# EAGLE library part MAX6969 (library max6969)
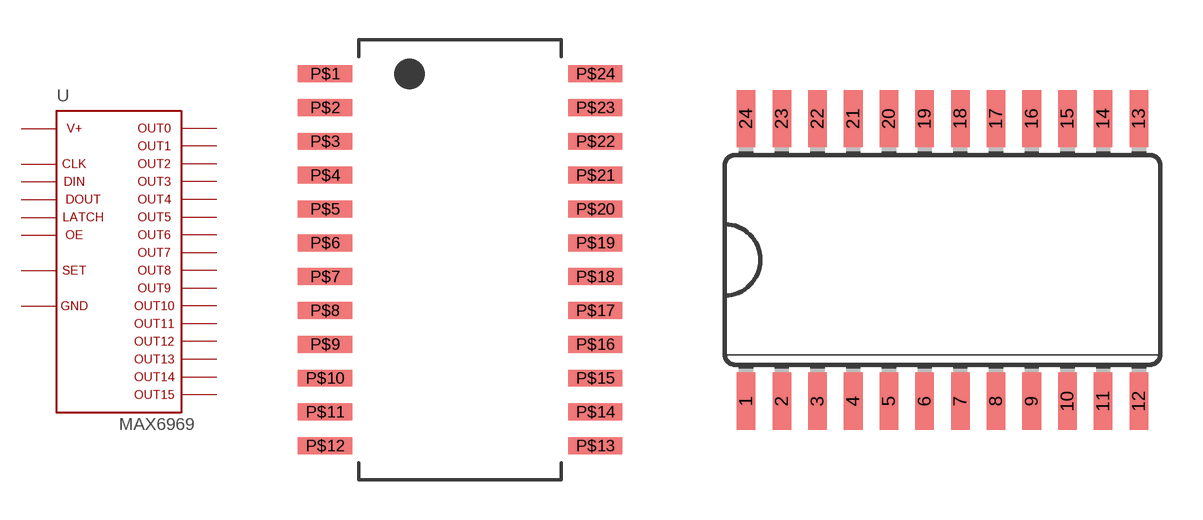
[diagram p0: symbol with the pads of TSSOP24; footprints TSSOP24, SO24W]

Designator prefix -

## MAX6969  [TSSOP24]
P$1  P$1  pwr
P$2  P$2  in
P$3  P$3  in
P$4  P$4  in
P$5  P$5  out
P$6  P$6  out
P$7  P$7  out
P$8  P$8  out
P$9  P$9  out
P$10  P$10  out
P$11  P$11  out
P$12  P$12  out
P$13  P$13  out
P$14  P$14  out
P$15  P$15  out
P$16  P$16  out
P$17  P$17  out
P$18  P$18  out
P$19  P$19  out
P$20  P$20  out
P$21  P$21  in
P$22  P$22  out
P$23  P$23
P$24  P$24  pwr

## MAX6969M  [SO24W]
1  P$1  pwr
2  P$2  in
3  P$3  in
4  P$4  in
5  P$5  out
6  P$6  out
7  P$7  out
8  P$8  out
9  P$9  out
10  P$10  out
11  P$11  out
12  P$12  out
13  P$13  out
14  P$14  out
15  P$15  out
16  P$16  out
17  P$17  out
18  P$18  out
19  P$19  out
20  P$20  out
21  P$21  in
22  P$22  out
23  P$23
24  P$24  pwr

## Footprint TSSOP24 (pad centres in mm)
smd 2.032 x 0.635: P$1 -5.07,6.35; P$2 -5.07,5.08; P$3 -5.07,3.81; P$4 -5.07,2.54; P$5 -5.07,1.27; P$6 -5.07,0; P$7 -5.07,-1.27; P$8 -5.07,-2.54; P$9 -5.07,-3.81; P$10 -5.07,-5.08; P$11 -5.07,-6.35; P$12 -5.07,-7.62; P$13 5.07,-7.62; P$14 5.07,-6.35; P$15 5.07,-5.08; P$16 5.07,-3.81; P$17 5.07,-2.54; P$18 5.07,-1.27; P$19 5.07,0; P$20 5.07,1.27; P$21 5.07,2.54; P$22 5.07,3.81; P$23 5.07,5.08; P$24 5.07,6.35

## Footprint SO24W (pad centres in mm)
Wide Small Outline package 300 mil
smd 0.66 x 2.032: 1 -6.985,-5.029; 2 -5.715,-5.029; 3 -4.445,-5.029; 4 -3.175,-5.029; 5 -1.905,-5.029; 6 -0.635,-5.029; 7 0.635,-5.029; 8 1.905,-5.029; 9 3.175,-5.029; 10 4.445,-5.029; 11 5.715,-5.029; 12 6.985,-5.029; 13 6.985,5.029; 14 5.715,5.029; 15 4.445,5.029; 16 3.175,5.029; 17 1.905,5.029; 18 0.635,5.029; 19 -0.635,5.029; 20 -1.905,5.029; 21 -3.175,5.029; 22 -4.445,5.029; 23 -5.715,5.029; 24 -6.985,5.029